# Altium integrated library MAX7219CNG+.IntLib: 1 symbol
Pins are listed as number, name and electrical type; pins without a type are passive.

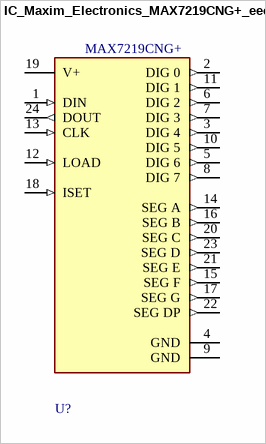
[diagram p0: symbol IC_Maxim_Electronics_MAX7219CNG+_eec]

## IC_Maxim_Electronics_MAX7219CNG+_eec
designator U?  Part Number: MAX7219CNG+
IC DRIVER LED DISPLAY 8DGT 24DIP; Manufacturer: Maxim Electronics; Digits or Characters: 8 Digits; Current - Supply: 330mA; Interface: 4-Wire Serial; Configuration: 7 Segment + DP; Voltage - Supply: 4V ~ 5.5V; helpURL: https://upverter.com/upn/revision/65c00705c4b1693e/; ComponentLink2Description: Datasheet; Temperature: 0°C to +70°C; Package: DIP24; Supplier 2: Mouser; Price: 6.81257539575; Supplier 1: Digi-Key; ComponentLink1URL: https://upverter.com/upn/revision/65c00705c4b1693e/; Supplier Part Number 2: 700-MAX7219CNG; Supplier Part Number 1: MAX7219CNG+-ND; ComponentLink1Description: Upverter; ComponentLink2URL: https://datasheets.maximintegrated.com/en/ds/MAX7219-MAX7221.pdf; RoHS: TRUE; Mouser Part Number: 700-MAX7219CNG; Temperature Range High: +70°C; Digikey Description: IC DRIVER LED DISPLAY 8DGT 24DIP; Digikey Part Number: MAX7219CNG+-ND; Lead Free: yes; Temperature Range Low: 0°C; Ipc Land Pattern Name: DIP794W47P254L3055H457Q24
footprint Maxim_Electronics_MAX7219CNG+_0
pins: 1 DIN (in), 2 DIG 0 (out), 3 DIG 4 (out), 4 GND (power), 5 DIG 6 (out), 6 DIG 2 (out), 7 DIG 3 (out), 8 DIG 7 (out), 9 GND (power), 10 DIG 5 (out), 11 DIG 1 (out), 12 LOAD (in), 13 CLK (in), 14 SEG A (out), 15 SEG F (out), 16 SEG B (out), 17 SEG G (out), 18 ISET (in), 19 V+ (power), 20 SEG C (out), 21 SEG E (out), 22 SEG DP (out), 23 SEG D (out), 24 DOUT (out)